# Altium footprint library C0805.PcbLib: 1 footprints
Each footprint in its own frame and in the unit in brackets; x right, y up, seen from the top. Pads: shape width x height; smd on the part's side, far side on the other; paste and mask are expansions set on the pad; w line width, h text height; cw(c..) or ccw(c..) is an arc to the next point about the centre after c.
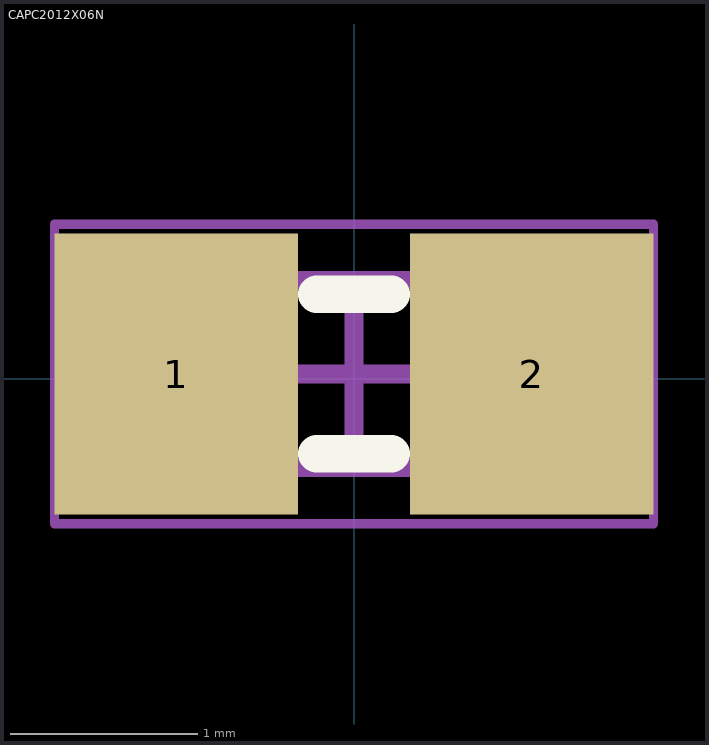
[diagram p0: the footprint, top view; thin cyan lines are the x and y axes]

## CAPC2012X06N [mm] "Chip Capacitor, 2-Leads, Body 2,00x1,20mm, IPC Medium Density"
height 0.6
pads (2):
  rect 1.3x1.5 smd: 1(-0.95,0.025) 2(0.95,0.025)
Top Overlay:
  lines w0.2: -0.2,-0.4 0.2,-0.4 ; -0.2,0.45 0.2,0.45
Mechanical 13:
  lines w0.1: -0.9,-0.475 -0.9,0.525 0.9,0.525 0.9,-0.475 -0.9,-0.475
Mechanical 15:
  lines w0.05: -1.6,-0.775 -1.6,0.825 1.6,0.825 1.6,-0.775 -1.6,-0.775
  lines w0.1: -0.5,0.025 0.5,0.025 ; 0,-0.475 0,0.525
3D body "CAPC1809X07N.step": height 0.7, standoff 0, extent -0.9,-0.475 0.9,0.525